# Altium schematic symbol library HMC545A.SchLib: 1 symbol
Pins are listed as number, name and electrical type; pins without a type are passive.

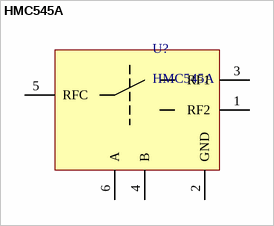
[diagram p0: symbol HMC545A]

## HMC545A
designator U?
pins: 1 RF2, 2 GND, 3 RF1, 4 B, 5 RFC, 6 A